# EAGLE library part CN-ATMEL-ISP (library Connector)
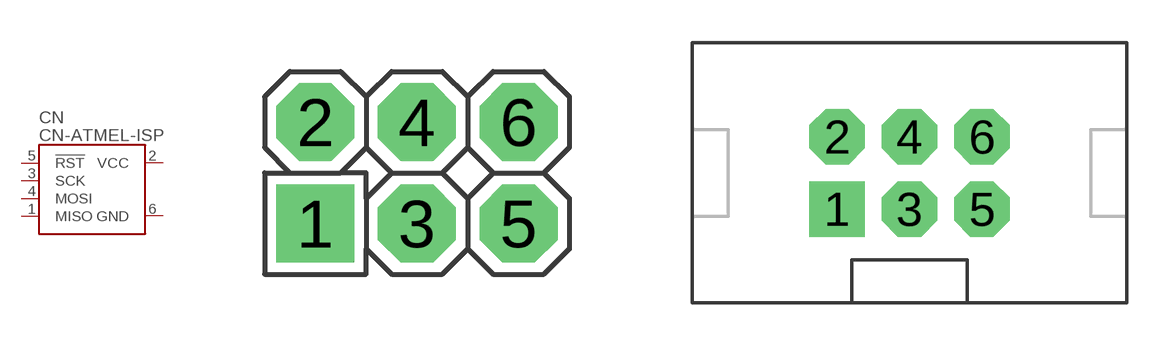
[diagram p4: symbol with the pads of PIN2X3; footprints PIN2X3, PIN2X3-BOX]

Designator prefix CN

## CN-ATMEL-ISP  [PIN2X3]
1  MISO  pas
2  VCC  pas
3  SCK  pas
4  MOSI  pas
5  !RST  pas
6  GND  pas

## CN-ATMEL-ISP-BOX  [PIN2X3-BOX]
Pads as for PIN2X3

## Footprint PIN2X3 (pad centres in mm)
drill 1.3 square: 1 -2.54,-1.27
drill 1.3 octagon: 2 -2.54,1.27; 3 0,-1.27; 4 0,1.27; 5 2.54,-1.27; 6 2.54,1.27

## Footprint PIN2X3-BOX (pad centres in mm)
drill 1.3 pad 1.9 square: 1 -2.54,-1.27
drill 1.3 pad 1.9 octagon: 2 -2.54,1.27; 3 0,-1.27; 4 0,1.27; 5 2.54,-1.27; 6 2.54,1.27